# Altium schematic symbol library IPB072N15N3.Schlib: 1 symbol
Pins are listed as number, name and electrical type; pins without a type are passive.

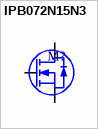
[diagram p0: symbol IPB072N15N3]

## IPB072N15N3
designator M?
150V 100A N-Channel
pins: 1 G, 3 S, 4 D